# Altium schematic symbol library BAT-HLD-013-SMT-TR.SchLib: 1 symbol
Pins are listed as number, name and electrical type; pins without a type are passive.

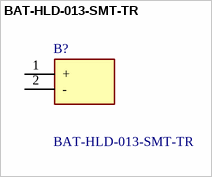
[diagram p0: symbol BAT-HLD-013-SMT-TR]

## BAT-HLD-013-SMT-TR
designator B?
CR2032 Battery Holder, 1 Position, Horizontal, Nickel (Ni); Manufacturer_Name: TE Connectivity; Geometry.Height: 6.5mm; Mouser Part Number: 712-BAT-HLD-013SMTTR; Mouser Price/Stock: https://www.mouser.co.uk/ProductDetail/TE-Connectivity-Linx-Technologies/BAT-HLD-013-SMT-TR?qs=4ASt3YYao0UKhYWrBts7tw%3D%3D; Manufacturer_Part_Number: BAT-HLD-013-SMT-TR; Datasheet Link: https://www.te.com/en/product-BAT-HLD-013-SMT-TR.html
footprint BATHLD013SMTTR
pins: 1 +, 2 -